# Altium integrated library RC0603FR-0710KL.IntLib: 1 symbol
Pins are listed as number, name and electrical type; pins without a type are passive.

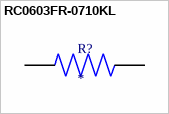
[diagram p0: symbol RC0603FR-0710KL]

## RC0603FR-0710KL
designator R?
10 кОм ±1% 0,1 Вт, 1/10 Вт Чип-резистор 0603 (1608 метрический) влагостойкий толстопленочный; MF: Yageo Corporation; MP: RC0603FR0710KL
footprint RESC1607X60N
pins: 1, 2